# Altium integrated library Analog Devices Switches and Multiplexers Multiplexers (Muxes).IntLib: 481 symbols (part 17 of 23)
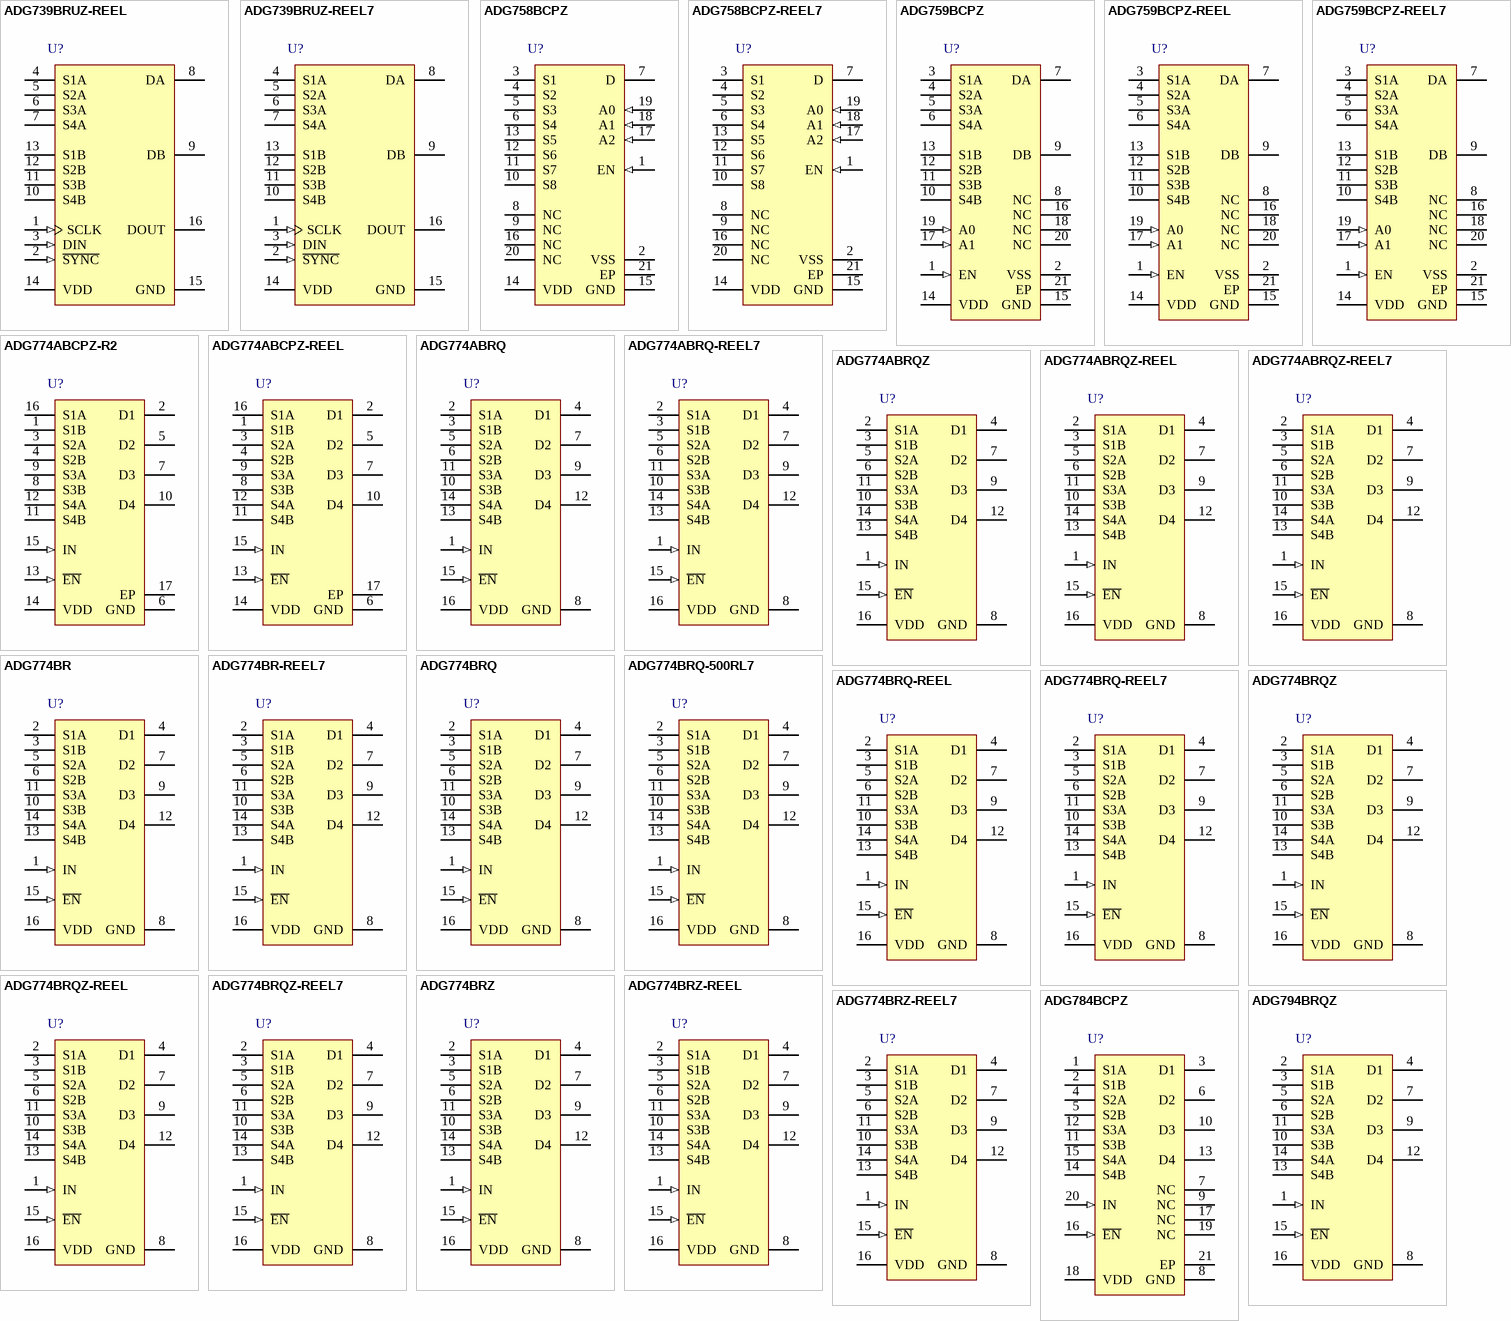
[diagram p33: symbols ADG739BRUZ-REEL to ADG794BRQZ]

## ADG774BR
designator U?
3 V / 5 V, CMOS, Wide Bandwidth Quad 2:1 Mux, -40 to 125 degC, 16-pin SOIC (R-16), Tube; Manufacturer: Analog Devices; PartNumber: ADG774BR; Bandwidth (Hz): 240M; Max Analog Signal Range: 0 to Vdd; Ron (ohms): 2.2; Supply V Guar Performance: Single_(+3V), Single_(+5V); DatasheetVersion: Rev. C; PackageVersion: 060606-A, 06/2006; PackageReference: R-16; PackageDescription: 16-Pin Standard Small Outline Package, Body 9.9 x 3.9 mm, Pitch 1.27 mm; Supplier 1: Digi-Key; Supplier Part Number 1: ADG774BR-ND; Packing: Tube; Mounting Technology: Surface Mount; Code_JEDEC: MS-012-AC; ComponentLink1Description: Manufacturer URL; ComponentLink1URL: http://www.analog.com/en/index.html; ComponentLink2Description: Datasheet; ComponentLink2URL: http://www.analog.com/static/imported-files/data_sheets/ADG774.pdf; ComponentLink3Description: Package Specification; ComponentLink3URL: http://www.analog.com/static/imported-files/packages/PKG_PDF/SOIC_Narrow%20(R)/R_16.pdf
footprint ADI-R-16_N (SOIC, 16-Leads, Body 9.9x3.9mm, Pitch 1.27mm, IPC Medium Density)
footprint ADI-R-16_L (SOIC, 16-Leads, Body 9.9x3.9mm, Pitch 1.27mm, IPC High Density)
footprint ADI-R-16_M (SOIC, 16-Leads, Body 9.9x3.9mm, Pitch 1.27mm, IPC Low Density)
pins: 1 IN (in) "Logic Control Input.", 2 S1A "Source Terminal. May be an input or output.", 3 S1B "Source Terminal. May be an input or output.", 4 D1 "Drain Terminal. May be an input or output.", 5 S2A "Source Terminal. May be an input or output.", 6 S2B "Source Terminal. May be an input or output.", 7 D2 "Drain Terminal. May be an input or output.", 8 GND (power) "Ground (0 V) Reference.", 9 D3 "Drain Terminal. May be an input or output.", 10 S3B "Source Terminal. May be an input or output.", 11 S3A "Source Terminal. May be an input or output.", 12 D4 "Drain Terminal. May be an input or output.", 13 S4B "Source Terminal. May be an input or output.", 14 S4A "Source Terminal. May be an input or output.", 15 ~{EN} (in) "Logic Control Input.", 16 VDD (power) "Most Positive Power Supply Potential."

## ADG774BR-REEL7
designator U?
3 V / 5 V, CMOS, Wide Bandwidth Quad 2:1 Mux, -40 to 125 degC, 16-pin SOIC (R-16), Reel; Manufacturer: Analog Devices; PartNumber: ADG774BR-REEL7; Bandwidth (Hz): 240M; Max Analog Signal Range: 0 to Vdd; Ron (ohms): 2.2; Supply V Guar Performance: Single_(+3V), Single_(+5V); DatasheetVersion: Rev. C; PackageVersion: 060606-A, 06/2006; PackageReference: R-16; PackageDescription: 16-Pin Standard Small Outline Package, Body 9.9 x 3.9 mm, Pitch 1.27 mm; Supplier 1: Digi-Key; Supplier Part Number 1: ADG774BR-REEL7TR-ND; Supplier 2: Digi-Key; Supplier Part Number 2: ADG774BR-REEL7CT-ND; Supplier 3: Digi-Key; Supplier Part Number 3: ADG774BR-REEL7DKR-ND; Supplier 4: Newark; Supplier Part Number 4: 09B7178; Supplier 5: Mouser; Supplier Part Number 5: 584-ADG774BR-R7; Packing: Reel; Mounting Technology: Surface Mount; Code_JEDEC: MS-012-AC; ComponentLink1Description: Manufacturer URL; ComponentLink1URL: http://www.analog.com/en/index.html; ComponentLink2Description: Datasheet; ComponentLink2URL: http://www.analog.com/static/imported-files/data_sheets/ADG774.pdf; ComponentLink3Description: Package Specification; ComponentLink3URL: http://www.analog.com/static/imported-files/packages/PKG_PDF/SOIC_Narrow%20(R)/R_16.pdf
footprint ADI-R-16_N (SOIC, 16-Leads, Body 9.9x3.9mm, Pitch 1.27mm, IPC Medium Density)
footprint ADI-R-16_L (SOIC, 16-Leads, Body 9.9x3.9mm, Pitch 1.27mm, IPC High Density)
footprint ADI-R-16_M (SOIC, 16-Leads, Body 9.9x3.9mm, Pitch 1.27mm, IPC Low Density)
pins: 1 IN (in) "Logic Control Input.", 2 S1A "Source Terminal. May be an input or output.", 3 S1B "Source Terminal. May be an input or output.", 4 D1 "Drain Terminal. May be an input or output.", 5 S2A "Source Terminal. May be an input or output.", 6 S2B "Source Terminal. May be an input or output.", 7 D2 "Drain Terminal. May be an input or output.", 8 GND (power) "Ground (0 V) Reference.", 9 D3 "Drain Terminal. May be an input or output.", 10 S3B "Source Terminal. May be an input or output.", 11 S3A "Source Terminal. May be an input or output.", 12 D4 "Drain Terminal. May be an input or output.", 13 S4B "Source Terminal. May be an input or output.", 14 S4A "Source Terminal. May be an input or output.", 15 ~{EN} (in) "Logic Control Input.", 16 VDD (power) "Most Positive Power Supply Potential."

## ADG774BRQ
designator U?
3 V / 5 V, CMOS, Wide Bandwidth Quad 2:1 Mux, -40 to 125 degC, 16-pin SOP (RQ-16), Tube; Manufacturer: Analog Devices; PartNumber: ADG774BRQ; Bandwidth (Hz): 240M; Max Analog Signal Range: 0 to Vdd; Ron (ohms): 2.2; Supply V Guar Performance: Single_(+3V), Single_(+5V); DatasheetVersion: Rev. C; PackageVersion: Aug-05; PackageReference: RQ-16; PackageDescription: 16-Pin Shrink Small Outline Package, Body 4.9 x 3.9 mm, Pitch 0.64 mm; Supplier 1: Digi-Key; Supplier Part Number 1: ADG774BRQ-ND; Packing: Tube; Mounting Technology: Surface Mount; Code_JEDEC: MO-137-AB; ComponentLink1Description: Manufacturer URL; ComponentLink1URL: http://www.analog.com/en/index.html; ComponentLink2Description: Datasheet; ComponentLink2URL: http://www.analog.com/static/imported-files/data_sheets/ADG774.pdf; ComponentLink3Description: Package Specification; ComponentLink3URL: http://www.analog.com/static/imported-files/packages/5595549651201762937RQ_16.pdf
footprint ADI-RQ-16_N (SOP, 16-Leads, Body 4.9x3.9mm, Pitch 0.64mm, IPC Medium Density)
footprint ADI-RQ-16_L (SOP, 16-Leads, Body 4.9x3.9mm, Pitch 0.64mm, IPC High Density)
footprint ADI-RQ-16_M (SOP, 16-Leads, Body 4.9x3.9mm, Pitch 0.64mm, IPC Low Density)
pins: 1 IN (in) "Logic Control Input.", 2 S1A "Source Terminal. May be an input or output.", 3 S1B "Source Terminal. May be an input or output.", 4 D1 "Drain Terminal. May be an input or output.", 5 S2A "Source Terminal. May be an input or output.", 6 S2B "Source Terminal. May be an input or output.", 7 D2 "Drain Terminal. May be an input or output.", 8 GND (power) "Ground (0 V) Reference.", 9 D3 "Drain Terminal. May be an input or output.", 10 S3B "Source Terminal. May be an input or output.", 11 S3A "Source Terminal. May be an input or output.", 12 D4 "Drain Terminal. May be an input or output.", 13 S4B "Source Terminal. May be an input or output.", 14 S4A "Source Terminal. May be an input or output.", 15 ~{EN} (in) "Logic Control Input.", 16 VDD (power) "Most Positive Power Supply Potential."

## ADG774BRQ-500RL7
designator U?
3 V / 5 V, CMOS, Wide Bandwidth Quad 2:1 Mux, -40 to 125 degC, 16-pin SOP (RQ-16), Reel; Manufacturer: Analog Devices; PartNumber: ADG774BRQ-500RL7; Bandwidth (Hz): 240M; Max Analog Signal Range: 0 to Vdd; Ron (ohms): 2.2; Supply V Guar Performance: Single_(+3V), Single_(+5V); DatasheetVersion: Rev. C; PackageVersion: Aug-05; PackageReference: RQ-16; PackageDescription: 16-Pin Shrink Small Outline Package, Body 4.9 x 3.9 mm, Pitch 0.64 mm; Supplier 1: Mouser; Supplier Part Number 1: N/A; Packing: Reel; Mounting Technology: Surface Mount; Code_JEDEC: MO-137-AB; ComponentLink1Description: Manufacturer URL; ComponentLink1URL: http://www.analog.com/en/index.html; ComponentLink2Description: Datasheet; ComponentLink2URL: http://www.analog.com/static/imported-files/data_sheets/ADG774.pdf; ComponentLink3Description: Package Specification; ComponentLink3URL: http://www.analog.com/static/imported-files/packages/5595549651201762937RQ_16.pdf
footprint ADI-RQ-16_N (SOP, 16-Leads, Body 4.9x3.9mm, Pitch 0.64mm, IPC Medium Density)
footprint ADI-RQ-16_L (SOP, 16-Leads, Body 4.9x3.9mm, Pitch 0.64mm, IPC High Density)
footprint ADI-RQ-16_M (SOP, 16-Leads, Body 4.9x3.9mm, Pitch 0.64mm, IPC Low Density)
pins: 1 IN (in) "Logic Control Input.", 2 S1A "Source Terminal. May be an input or output.", 3 S1B "Source Terminal. May be an input or output.", 4 D1 "Drain Terminal. May be an input or output.", 5 S2A "Source Terminal. May be an input or output.", 6 S2B "Source Terminal. May be an input or output.", 7 D2 "Drain Terminal. May be an input or output.", 8 GND (power) "Ground (0 V) Reference.", 9 D3 "Drain Terminal. May be an input or output.", 10 S3B "Source Terminal. May be an input or output.", 11 S3A "Source Terminal. May be an input or output.", 12 D4 "Drain Terminal. May be an input or output.", 13 S4B "Source Terminal. May be an input or output.", 14 S4A "Source Terminal. May be an input or output.", 15 ~{EN} (in) "Logic Control Input.", 16 VDD (power) "Most Positive Power Supply Potential."

## ADG774BRQ-REEL
designator U?
3 V / 5 V, CMOS, Wide Bandwidth Quad 2:1 Mux, -40 to 125 degC, 16-pin SOP (RQ-16), Reel; Manufacturer: Analog Devices; PartNumber: ADG774BRQ-REEL; Bandwidth (Hz): 240M; Max Analog Signal Range: 0 to Vdd; Ron (ohms): 2.2; Supply V Guar Performance: Single_(+3V), Single_(+5V); DatasheetVersion: Rev. C; PackageVersion: Aug-05; PackageReference: RQ-16; PackageDescription: 16-Pin Shrink Small Outline Package, Body 4.9 x 3.9 mm, Pitch 0.64 mm; Supplier 1: Digi-Key; Supplier Part Number 1: ADG774BRQ-REEL-ND; Supplier 2: Newark; Supplier Part Number 2: 09B7175; Packing: Reel; Mounting Technology: Surface Mount; Code_JEDEC: MO-137-AB; ComponentLink1Description: Manufacturer URL; ComponentLink1URL: http://www.analog.com/en/index.html; ComponentLink2Description: Datasheet; ComponentLink2URL: http://www.analog.com/static/imported-files/data_sheets/ADG774.pdf; ComponentLink3Description: Package Specification; ComponentLink3URL: http://www.analog.com/static/imported-files/packages/5595549651201762937RQ_16.pdf
footprint ADI-RQ-16_N (SOP, 16-Leads, Body 4.9x3.9mm, Pitch 0.64mm, IPC Medium Density)
footprint ADI-RQ-16_L (SOP, 16-Leads, Body 4.9x3.9mm, Pitch 0.64mm, IPC High Density)
footprint ADI-RQ-16_M (SOP, 16-Leads, Body 4.9x3.9mm, Pitch 0.64mm, IPC Low Density)
pins: 1 IN (in) "Logic Control Input.", 2 S1A "Source Terminal. May be an input or output.", 3 S1B "Source Terminal. May be an input or output.", 4 D1 "Drain Terminal. May be an input or output.", 5 S2A "Source Terminal. May be an input or output.", 6 S2B "Source Terminal. May be an input or output.", 7 D2 "Drain Terminal. May be an input or output.", 8 GND (power) "Ground (0 V) Reference.", 9 D3 "Drain Terminal. May be an input or output.", 10 S3B "Source Terminal. May be an input or output.", 11 S3A "Source Terminal. May be an input or output.", 12 D4 "Drain Terminal. May be an input or output.", 13 S4B "Source Terminal. May be an input or output.", 14 S4A "Source Terminal. May be an input or output.", 15 ~{EN} (in) "Logic Control Input.", 16 VDD (power) "Most Positive Power Supply Potential."

## ADG774BRQ-REEL7
designator U?
3 V / 5 V, CMOS, Wide Bandwidth Quad 2:1 Mux, -40 to 125 degC, 16-pin SOP (RQ-16), Reel; Manufacturer: Analog Devices; PartNumber: ADG774BRQ-REEL7; Bandwidth (Hz): 240M; Max Analog Signal Range: 0 to Vdd; Ron (ohms): 2.2; Supply V Guar Performance: Single_(+3V), Single_(+5V); DatasheetVersion: Rev. C; PackageVersion: Aug-05; PackageReference: RQ-16; PackageDescription: 16-Pin Shrink Small Outline Package, Body 4.9 x 3.9 mm, Pitch 0.64 mm; Supplier 1: Digi-Key; Supplier Part Number 1: ADG774BRQ-REEL7TR-ND; Supplier 2: Digi-Key; Supplier Part Number 2: ADG774BRQ-REEL7CT-ND; Supplier 3: Digi-Key; Supplier Part Number 3: ADG774BRQ-REEL7DKR-ND; Supplier 4: Mouser; Supplier Part Number 4: 584-ADG774BRQ-R7; Packing: Reel; Mounting Technology: Surface Mount; Code_JEDEC: MO-137-AB; ComponentLink1Description: Manufacturer URL; ComponentLink1URL: http://www.analog.com/en/index.html; ComponentLink2Description: Datasheet; ComponentLink2URL: http://www.analog.com/static/imported-files/data_sheets/ADG774.pdf; ComponentLink3Description: Package Specification; ComponentLink3URL: http://www.analog.com/static/imported-files/packages/5595549651201762937RQ_16.pdf
footprint ADI-RQ-16_N (SOP, 16-Leads, Body 4.9x3.9mm, Pitch 0.64mm, IPC Medium Density)
footprint ADI-RQ-16_L (SOP, 16-Leads, Body 4.9x3.9mm, Pitch 0.64mm, IPC High Density)
footprint ADI-RQ-16_M (SOP, 16-Leads, Body 4.9x3.9mm, Pitch 0.64mm, IPC Low Density)
pins: 1 IN (in) "Logic Control Input.", 2 S1A "Source Terminal. May be an input or output.", 3 S1B "Source Terminal. May be an input or output.", 4 D1 "Drain Terminal. May be an input or output.", 5 S2A "Source Terminal. May be an input or output.", 6 S2B "Source Terminal. May be an input or output.", 7 D2 "Drain Terminal. May be an input or output.", 8 GND (power) "Ground (0 V) Reference.", 9 D3 "Drain Terminal. May be an input or output.", 10 S3B "Source Terminal. May be an input or output.", 11 S3A "Source Terminal. May be an input or output.", 12 D4 "Drain Terminal. May be an input or output.", 13 S4B "Source Terminal. May be an input or output.", 14 S4A "Source Terminal. May be an input or output.", 15 ~{EN} (in) "Logic Control Input.", 16 VDD (power) "Most Positive Power Supply Potential."

## ADG774BRQZ
designator U?
3 V / 5 V, CMOS, Wide Bandwidth Quad 2:1 Mux, -40 to 125 degC, 16-pin SOP (RQ-16), Tube; Manufacturer: Analog Devices; PartNumber: ADG774BRQZ; Bandwidth (Hz): 240M; Max Analog Signal Range: 0 to Vdd; Ron (ohms): 2.2; Supply V Guar Performance: Single_(+3V), Single_(+5V); DatasheetVersion: Rev. C; PackageVersion: Aug-05; PackageReference: RQ-16; PackageDescription: 16-Pin Shrink Small Outline Package, Body 4.9 x 3.9 mm, Pitch 0.64 mm; Supplier 1: Digi-Key; Supplier Part Number 1: ADG774BRQZ-ND; Supplier 2: Farnell; Supplier Part Number 2: 2377063; Supplier 3: Newark; Supplier Part Number 3: 59K1603; Supplier 4: Mouser; Supplier Part Number 4: 584-ADG774BRQZ; Packing: Tube; Mounting Technology: Surface Mount; Code_JEDEC: MO-137-AB; ComponentLink1Description: Manufacturer URL; ComponentLink1URL: http://www.analog.com/en/index.html; ComponentLink2Description: Datasheet; ComponentLink2URL: http://www.analog.com/static/imported-files/data_sheets/ADG774.pdf; ComponentLink3Description: Package Specification; ComponentLink3URL: http://www.analog.com/static/imported-files/packages/5595549651201762937RQ_16.pdf
footprint ADI-RQ-16_N (SOP, 16-Leads, Body 4.9x3.9mm, Pitch 0.64mm, IPC Medium Density)
footprint ADI-RQ-16_L (SOP, 16-Leads, Body 4.9x3.9mm, Pitch 0.64mm, IPC High Density)
footprint ADI-RQ-16_M (SOP, 16-Leads, Body 4.9x3.9mm, Pitch 0.64mm, IPC Low Density)
pins: 1 IN (in) "Logic Control Input.", 2 S1A "Source Terminal. May be an input or output.", 3 S1B "Source Terminal. May be an input or output.", 4 D1 "Drain Terminal. May be an input or output.", 5 S2A "Source Terminal. May be an input or output.", 6 S2B "Source Terminal. May be an input or output.", 7 D2 "Drain Terminal. May be an input or output.", 8 GND (power) "Ground (0 V) Reference.", 9 D3 "Drain Terminal. May be an input or output.", 10 S3B "Source Terminal. May be an input or output.", 11 S3A "Source Terminal. May be an input or output.", 12 D4 "Drain Terminal. May be an input or output.", 13 S4B "Source Terminal. May be an input or output.", 14 S4A "Source Terminal. May be an input or output.", 15 ~{EN} (in) "Logic Control Input.", 16 VDD (power) "Most Positive Power Supply Potential."

## ADG774BRQZ-REEL
designator U?
3 V / 5 V, CMOS, Wide Bandwidth Quad 2:1 Mux, -40 to 125 degC, 16-pin SOP (RQ-16), Reel; Manufacturer: Analog Devices; PartNumber: ADG774BRQZ-REEL; Bandwidth (Hz): 240M; Max Analog Signal Range: 0 to Vdd; Ron (ohms): 2.2; Supply V Guar Performance: Single_(+3V), Single_(+5V); DatasheetVersion: Rev. C; PackageVersion: Aug-05; PackageReference: RQ-16; PackageDescription: 16-Pin Shrink Small Outline Package, Body 4.9 x 3.9 mm, Pitch 0.64 mm; Supplier 1: Digi-Key; Supplier Part Number 1: ADG774BRQZ-REEL-ND; Supplier 2: Newark; Supplier Part Number 2: 59K1604; Supplier 3: Mouser; Supplier Part Number 3: 584-ADG774BRQZ-R; Packing: Reel; Mounting Technology: Surface Mount; Code_JEDEC: MO-137-AB; ComponentLink1Description: Manufacturer URL; ComponentLink1URL: http://www.analog.com/en/index.html; ComponentLink2Description: Datasheet; ComponentLink2URL: http://www.analog.com/static/imported-files/data_sheets/ADG774.pdf; ComponentLink3Description: Package Specification; ComponentLink3URL: http://www.analog.com/static/imported-files/packages/5595549651201762937RQ_16.pdf
footprint ADI-RQ-16_N (SOP, 16-Leads, Body 4.9x3.9mm, Pitch 0.64mm, IPC Medium Density)
footprint ADI-RQ-16_L (SOP, 16-Leads, Body 4.9x3.9mm, Pitch 0.64mm, IPC High Density)
footprint ADI-RQ-16_M (SOP, 16-Leads, Body 4.9x3.9mm, Pitch 0.64mm, IPC Low Density)
pins: 1 IN (in) "Logic Control Input.", 2 S1A "Source Terminal. May be an input or output.", 3 S1B "Source Terminal. May be an input or output.", 4 D1 "Drain Terminal. May be an input or output.", 5 S2A "Source Terminal. May be an input or output.", 6 S2B "Source Terminal. May be an input or output.", 7 D2 "Drain Terminal. May be an input or output.", 8 GND (power) "Ground (0 V) Reference.", 9 D3 "Drain Terminal. May be an input or output.", 10 S3B "Source Terminal. May be an input or output.", 11 S3A "Source Terminal. May be an input or output.", 12 D4 "Drain Terminal. May be an input or output.", 13 S4B "Source Terminal. May be an input or output.", 14 S4A "Source Terminal. May be an input or output.", 15 ~{EN} (in) "Logic Control Input.", 16 VDD (power) "Most Positive Power Supply Potential."

## ADG774BRQZ-REEL7
designator U?
3 V / 5 V, CMOS, Wide Bandwidth Quad 2:1 Mux, -40 to 125 degC, 16-pin SOP (RQ-16), Reel; Manufacturer: Analog Devices; PartNumber: ADG774BRQZ-REEL7; Bandwidth (Hz): 240M; Max Analog Signal Range: 0 to Vdd; Ron (ohms): 2.2; Supply V Guar Performance: Single_(+3V), Single_(+5V); DatasheetVersion: Rev. C; PackageVersion: Aug-05; PackageReference: RQ-16; PackageDescription: 16-Pin Shrink Small Outline Package, Body 4.9 x 3.9 mm, Pitch 0.64 mm; Supplier 1: Digi-Key; Supplier Part Number 1: ADG774BRQZ-REEL7-ND; Supplier 2: Newark; Supplier Part Number 2: 59K1605; Supplier 3: Mouser; Supplier Part Number 3: 584-ADG774BRQZ-R7; Packing: Reel; Mounting Technology: Surface Mount; Code_JEDEC: MO-137-AB; ComponentLink1Description: Manufacturer URL; ComponentLink1URL: http://www.analog.com/en/index.html; ComponentLink2Description: Datasheet; ComponentLink2URL: http://www.analog.com/static/imported-files/data_sheets/ADG774.pdf; ComponentLink3Description: Package Specification; ComponentLink3URL: http://www.analog.com/static/imported-files/packages/5595549651201762937RQ_16.pdf
footprint ADI-RQ-16_N (SOP, 16-Leads, Body 4.9x3.9mm, Pitch 0.64mm, IPC Medium Density)
footprint ADI-RQ-16_L (SOP, 16-Leads, Body 4.9x3.9mm, Pitch 0.64mm, IPC High Density)
footprint ADI-RQ-16_M (SOP, 16-Leads, Body 4.9x3.9mm, Pitch 0.64mm, IPC Low Density)
pins: 1 IN (in) "Logic Control Input.", 2 S1A "Source Terminal. May be an input or output.", 3 S1B "Source Terminal. May be an input or output.", 4 D1 "Drain Terminal. May be an input or output.", 5 S2A "Source Terminal. May be an input or output.", 6 S2B "Source Terminal. May be an input or output.", 7 D2 "Drain Terminal. May be an input or output.", 8 GND (power) "Ground (0 V) Reference.", 9 D3 "Drain Terminal. May be an input or output.", 10 S3B "Source Terminal. May be an input or output.", 11 S3A "Source Terminal. May be an input or output.", 12 D4 "Drain Terminal. May be an input or output.", 13 S4B "Source Terminal. May be an input or output.", 14 S4A "Source Terminal. May be an input or output.", 15 ~{EN} (in) "Logic Control Input.", 16 VDD (power) "Most Positive Power Supply Potential."

## ADG774BRZ
designator U?
3 V / 5 V, CMOS, Wide Bandwidth Quad 2:1 Mux, -40 to 125 degC, 16-pin SOIC (R-16), Tube; Manufacturer: Analog Devices; PartNumber: ADG774BRZ; Bandwidth (Hz): 240M; Max Analog Signal Range: 0 to Vdd; Ron (ohms): 2.2; Supply V Guar Performance: Single_(+3V), Single_(+5V); DatasheetVersion: Rev. C; PackageVersion: 060606-A, 06/2006; PackageReference: R-16; PackageDescription: 16-Pin Standard Small Outline Package, Body 9.9 x 3.9 mm, Pitch 1.27 mm; Supplier 1: Digi-Key; Supplier Part Number 1: ADG774BRZ-ND; Supplier 2: Farnell; Supplier Part Number 2: 9425799; Supplier 3: Newark; Supplier Part Number 3: 19M0694; Supplier 4: Mouser; Supplier Part Number 4: 584-ADG774BRZ; Packing: Tube; Mounting Technology: Surface Mount; Code_JEDEC: MS-012-AC; ComponentLink1Description: Manufacturer URL; ComponentLink1URL: http://www.analog.com/en/index.html; ComponentLink2Description: Datasheet; ComponentLink2URL: http://www.analog.com/static/imported-files/data_sheets/ADG774.pdf; ComponentLink3Description: Package Specification; ComponentLink3URL: http://www.analog.com/static/imported-files/packages/PKG_PDF/SOIC_Narrow%20(R)/R_16.pdf
footprint ADI-R-16_N (SOIC, 16-Leads, Body 9.9x3.9mm, Pitch 1.27mm, IPC Medium Density)
footprint ADI-R-16_L (SOIC, 16-Leads, Body 9.9x3.9mm, Pitch 1.27mm, IPC High Density)
footprint ADI-R-16_M (SOIC, 16-Leads, Body 9.9x3.9mm, Pitch 1.27mm, IPC Low Density)
pins: 1 IN (in) "Logic Control Input.", 2 S1A "Source Terminal. May be an input or output.", 3 S1B "Source Terminal. May be an input or output.", 4 D1 "Drain Terminal. May be an input or output.", 5 S2A "Source Terminal. May be an input or output.", 6 S2B "Source Terminal. May be an input or output.", 7 D2 "Drain Terminal. May be an input or output.", 8 GND (power) "Ground (0 V) Reference.", 9 D3 "Drain Terminal. May be an input or output.", 10 S3B "Source Terminal. May be an input or output.", 11 S3A "Source Terminal. May be an input or output.", 12 D4 "Drain Terminal. May be an input or output.", 13 S4B "Source Terminal. May be an input or output.", 14 S4A "Source Terminal. May be an input or output.", 15 ~{EN} (in) "Logic Control Input.", 16 VDD (power) "Most Positive Power Supply Potential."

## ADG774BRZ-REEL
designator U?
3 V / 5 V, CMOS, Wide Bandwidth Quad 2:1 Mux, -40 to 125 degC, 16-pin SOIC (R-16), Reel; Manufacturer: Analog Devices; PartNumber: ADG774BRZ-REEL; Bandwidth (Hz): 240M; Max Analog Signal Range: 0 to Vdd; Ron (ohms): 2.2; Supply V Guar Performance: Single_(+3V), Single_(+5V); DatasheetVersion: Rev. C; PackageVersion: 060606-A, 06/2006; PackageReference: R-16; PackageDescription: 16-Pin Standard Small Outline Package, Body 9.9 x 3.9 mm, Pitch 1.27 mm; Supplier 1: Digi-Key; Supplier Part Number 1: ADG774BRZ-REEL-ND; Supplier 2: Mouser; Supplier Part Number 2: 584-ADG774BRZ-R; Packing: Reel; Mounting Technology: Surface Mount; Code_JEDEC: MS-012-AC; ComponentLink1Description: Manufacturer URL; ComponentLink1URL: http://www.analog.com/en/index.html; ComponentLink2Description: Datasheet; ComponentLink2URL: http://www.analog.com/static/imported-files/data_sheets/ADG774.pdf; ComponentLink3Description: Package Specification; ComponentLink3URL: http://www.analog.com/static/imported-files/packages/PKG_PDF/SOIC_Narrow%20(R)/R_16.pdf
footprint ADI-R-16_N (SOIC, 16-Leads, Body 9.9x3.9mm, Pitch 1.27mm, IPC Medium Density)
footprint ADI-R-16_L (SOIC, 16-Leads, Body 9.9x3.9mm, Pitch 1.27mm, IPC High Density)
footprint ADI-R-16_M (SOIC, 16-Leads, Body 9.9x3.9mm, Pitch 1.27mm, IPC Low Density)
pins: 1 IN (in) "Logic Control Input.", 2 S1A "Source Terminal. May be an input or output.", 3 S1B "Source Terminal. May be an input or output.", 4 D1 "Drain Terminal. May be an input or output.", 5 S2A "Source Terminal. May be an input or output.", 6 S2B "Source Terminal. May be an input or output.", 7 D2 "Drain Terminal. May be an input or output.", 8 GND (power) "Ground (0 V) Reference.", 9 D3 "Drain Terminal. May be an input or output.", 10 S3B "Source Terminal. May be an input or output.", 11 S3A "Source Terminal. May be an input or output.", 12 D4 "Drain Terminal. May be an input or output.", 13 S4B "Source Terminal. May be an input or output.", 14 S4A "Source Terminal. May be an input or output.", 15 ~{EN} (in) "Logic Control Input.", 16 VDD (power) "Most Positive Power Supply Potential."

## ADG774BRZ-REEL7
designator U?
3 V / 5 V, CMOS, Wide Bandwidth Quad 2:1 Mux, -40 to 125 degC, 16-pin SOIC (R-16), Reel; Manufacturer: Analog Devices; PartNumber: ADG774BRZ-REEL7; Bandwidth (Hz): 240M; Max Analog Signal Range: 0 to Vdd; Ron (ohms): 2.2; Supply V Guar Performance: Single_(+3V), Single_(+5V); DatasheetVersion: Rev. C; PackageVersion: 060606-A, 06/2006; PackageReference: R-16; PackageDescription: 16-Pin Standard Small Outline Package, Body 9.9 x 3.9 mm, Pitch 1.27 mm; Supplier 1: Digi-Key; Supplier Part Number 1: ADG774BRZ-REEL7-ND; Supplier 2: Newark; Supplier Part Number 2: 59K1608; Supplier 3: Mouser; Supplier Part Number 3: 584-ADG774BRZ-R7; Packing: Reel; Mounting Technology: Surface Mount; Code_JEDEC: MS-012-AC; ComponentLink1Description: Manufacturer URL; ComponentLink1URL: http://www.analog.com/en/index.html; ComponentLink2Description: Datasheet; ComponentLink2URL: http://www.analog.com/static/imported-files/data_sheets/ADG774.pdf; ComponentLink3Description: Package Specification; ComponentLink3URL: http://www.analog.com/static/imported-files/packages/PKG_PDF/SOIC_Narrow%20(R)/R_16.pdf
footprint ADI-R-16_N (SOIC, 16-Leads, Body 9.9x3.9mm, Pitch 1.27mm, IPC Medium Density)
footprint ADI-R-16_L (SOIC, 16-Leads, Body 9.9x3.9mm, Pitch 1.27mm, IPC High Density)
footprint ADI-R-16_M (SOIC, 16-Leads, Body 9.9x3.9mm, Pitch 1.27mm, IPC Low Density)
pins: 1 IN (in) "Logic Control Input.", 2 S1A "Source Terminal. May be an input or output.", 3 S1B "Source Terminal. May be an input or output.", 4 D1 "Drain Terminal. May be an input or output.", 5 S2A "Source Terminal. May be an input or output.", 6 S2B "Source Terminal. May be an input or output.", 7 D2 "Drain Terminal. May be an input or output.", 8 GND (power) "Ground (0 V) Reference.", 9 D3 "Drain Terminal. May be an input or output.", 10 S3B "Source Terminal. May be an input or output.", 11 S3A "Source Terminal. May be an input or output.", 12 D4 "Drain Terminal. May be an input or output.", 13 S4B "Source Terminal. May be an input or output.", 14 S4A "Source Terminal. May be an input or output.", 15 ~{EN} (in) "Logic Control Input.", 16 VDD (power) "Most Positive Power Supply Potential."

## ADG784BCPZ
designator U?
3 V / 5 V, CMOS, Wide Bandwidth Quad 2:1 Mux in Chip Scale Package, -40 to 85 degC, 20-pin QFN (CP-20-6), Tube; Manufacturer: Analog Devices; PartNumber: ADG784BCPZ; Bandwidth (Hz): 240M; Max Analog Signal Range: 0 to Vdd; Packing: Tray; Ron (ohms): 2.2; Supply V Guar Performance: Single_(+3V), Single_(+5V); DatasheetVersion: Rev. 0; PackageVersion: 061708-A, 07/2011; PackageReference: CP-20-6; PackageDescription: 20-Pin Lead Frame Chip Scale Package, Body 4 x 4 mm, Pitch 0.5 mm; Supplier 1: Digi-Key; Supplier Part Number 1: ADG784BCPZ-ND; Supplier 2: Mouser; Supplier Part Number 2: 584-ADG784BCPZ; Mounting Technology: Surface Mount; Code_JEDEC: MO-220; ComponentLink1Description: Manufacturer URL; ComponentLink1URL: http://www.analog.com/en/index.html; ComponentLink2Description: Datasheet; ComponentLink2URL: http://www.analog.com/static/imported-files/data_sheets/ADG784.pdf; ComponentLink3Description: Package Specification; ComponentLink3URL: http://www.analog.com/static/imported-files/packages/PKG_PDF/LFCSP(CP)/CP_20_6.pdf
footprint ADI-CP-20-6_N (QFN, 20-Leads, Body 4x4mm, Pitch 0.5mm, Thermal Pad 2.15x2.15mm, IPC Medium Density)
footprint ADI-CP-20-6_L (QFN, 20-Leads, Body 4x4mm, Pitch 0.5mm, Thermal Pad 2.15x2.15mm, IPC High Density)
footprint ADI-CP-20-6_M (QFN, 20-Leads, Body 4x4mm, Pitch 0.5mm, Thermal Pad 2.15x2.15mm, IPC Low Density)
pins: 1 S1A "Source Terminal. May be an input or output", 2 S1B "Source Terminal. May be an input or output", 3 D1 "Drain Terminal. May be an input or output.", 4 S2A "Source Terminal. May be an input or output", 5 S2B "Source Terminal. May be an input or output", 6 D2 "Drain Terminal. May be an input or output.", 7 NC "No connect.", 8 GND (power) "Ground (0 V) Reference.", 9 NC "No connect.", 10 D3 "Drain Terminal. May be an input or output.", 11 S3B "Source Terminal. May be an input or output", 12 S3A "Source Terminal. May be an input or output", 13 D4 "Drain Terminal. May be an input or output.", 14 S4B "Source Terminal. May be an input or output", 15 S4A "Source Terminal. May be an input or output", 16 ~{EN} (in) "Logic Control Input.", 17 NC "No connect.", 18 VDD (power) "Most Positive Power Supply Potential", 19 NC "No connect.", 20 IN (in) "Logic Control Input.", 21 EP (power) "EXPOSED PAD TIED TO SUBSTRATE, GND"

## ADG794BRQZ
designator U?
Low Voltage, 300 MHz Quad 2:1 Mux Analog HDTV Audio / Video Switch, -40 to 85 degC, 16-pin SOP (RQ-16), Tube; Manufacturer: Analog Devices; PartNumber: ADG794BRQZ; Bandwidth (Hz): 300M; Max Analog Signal Range: 0 to Vdd/2; Ron (ohms): 7; Supply V Guar Performance: Single_(+3V), Single_(+5V); DatasheetVersion: Rev. B; PackageVersion: Aug-05; PackageReference: RQ-16; PackageDescription: 16-Pin Shrink Small Outline Package, Body 4.9 x 3.9 mm, Pitch 0.64 mm; Supplier 1: Digi-Key; Supplier Part Number 1: ADG794BRQZ-ND; Supplier 2: Farnell; Supplier Part Number 2: 1078226; Supplier 3: Newark; Supplier Part Number 3: 19M0696; Supplier 4: Mouser; Supplier Part Number 4: 584-ADG794BRQZ; Packing: Tube; Mounting Technology: Surface Mount; Code_JEDEC: MO-137-AB; ComponentLink1Description: Manufacturer URL; ComponentLink1URL: http://www.analog.com/en/index.html; ComponentLink2Description: Datasheet; ComponentLink2URL: http://www.analog.com/static/imported-files/data_sheets/ADG794.pdf; ComponentLink3Description: Package Specification; ComponentLink3URL: http://www.analog.com/static/imported-files/packages/5595549651201762937RQ_16.pdf
footprint ADI-RQ-16_N (SOP, 16-Leads, Body 4.9x3.9mm, Pitch 0.64mm, IPC Medium Density)
footprint ADI-RQ-16_L (SOP, 16-Leads, Body 4.9x3.9mm, Pitch 0.64mm, IPC High Density)
footprint ADI-RQ-16_M (SOP, 16-Leads, Body 4.9x3.9mm, Pitch 0.64mm, IPC Low Density)
pins: 1 IN (in) "Logic Control Input. The logic level at this input controls the operation of the multiplexers (see Table 4).", 2 S1A "A-Side Source Terminal of Mux1. Can be an input or an output.", 3 S1B "B-Side Source Terminal of Mux1. Can be an input or an output.", 4 D1 "Drain Terminal of Mux1. Can be an input or an output.", 5 S2A "A-Side Source Terminal of Mux2. Can be an input or an output.", 6 S2B "B-Side Source Terminal of Mux2. Can be an input or an output.", 7 D2 "Drain Terminal of Mux2. Can be an input or an output.", 8 GND (power) "Ground Reference.", 9 D3 "Drain Terminal of Mux3. Can be an input or an output.", 10 S3B "B-Side Source Terminal of Mux3. Can be an input or an output.", 11 S3A "A-Side Source Terminal of Mux3. Can be an input or an output.", 12 D4 "Drain Terminal of Mux4. Can be an input or an output.", 13 S4B "B-Side Source Terminal of Mux4. Can be an input or an output.", 14 S4A "A-Side Source Terminal of Mux4. Can be an input or an output.", 15 ~{EN} (in) "Mux Enable Logic Input. Enables or disables the multiplexers (see Table 4).", 16 VDD (power) "Positive Power Supply Voltage."

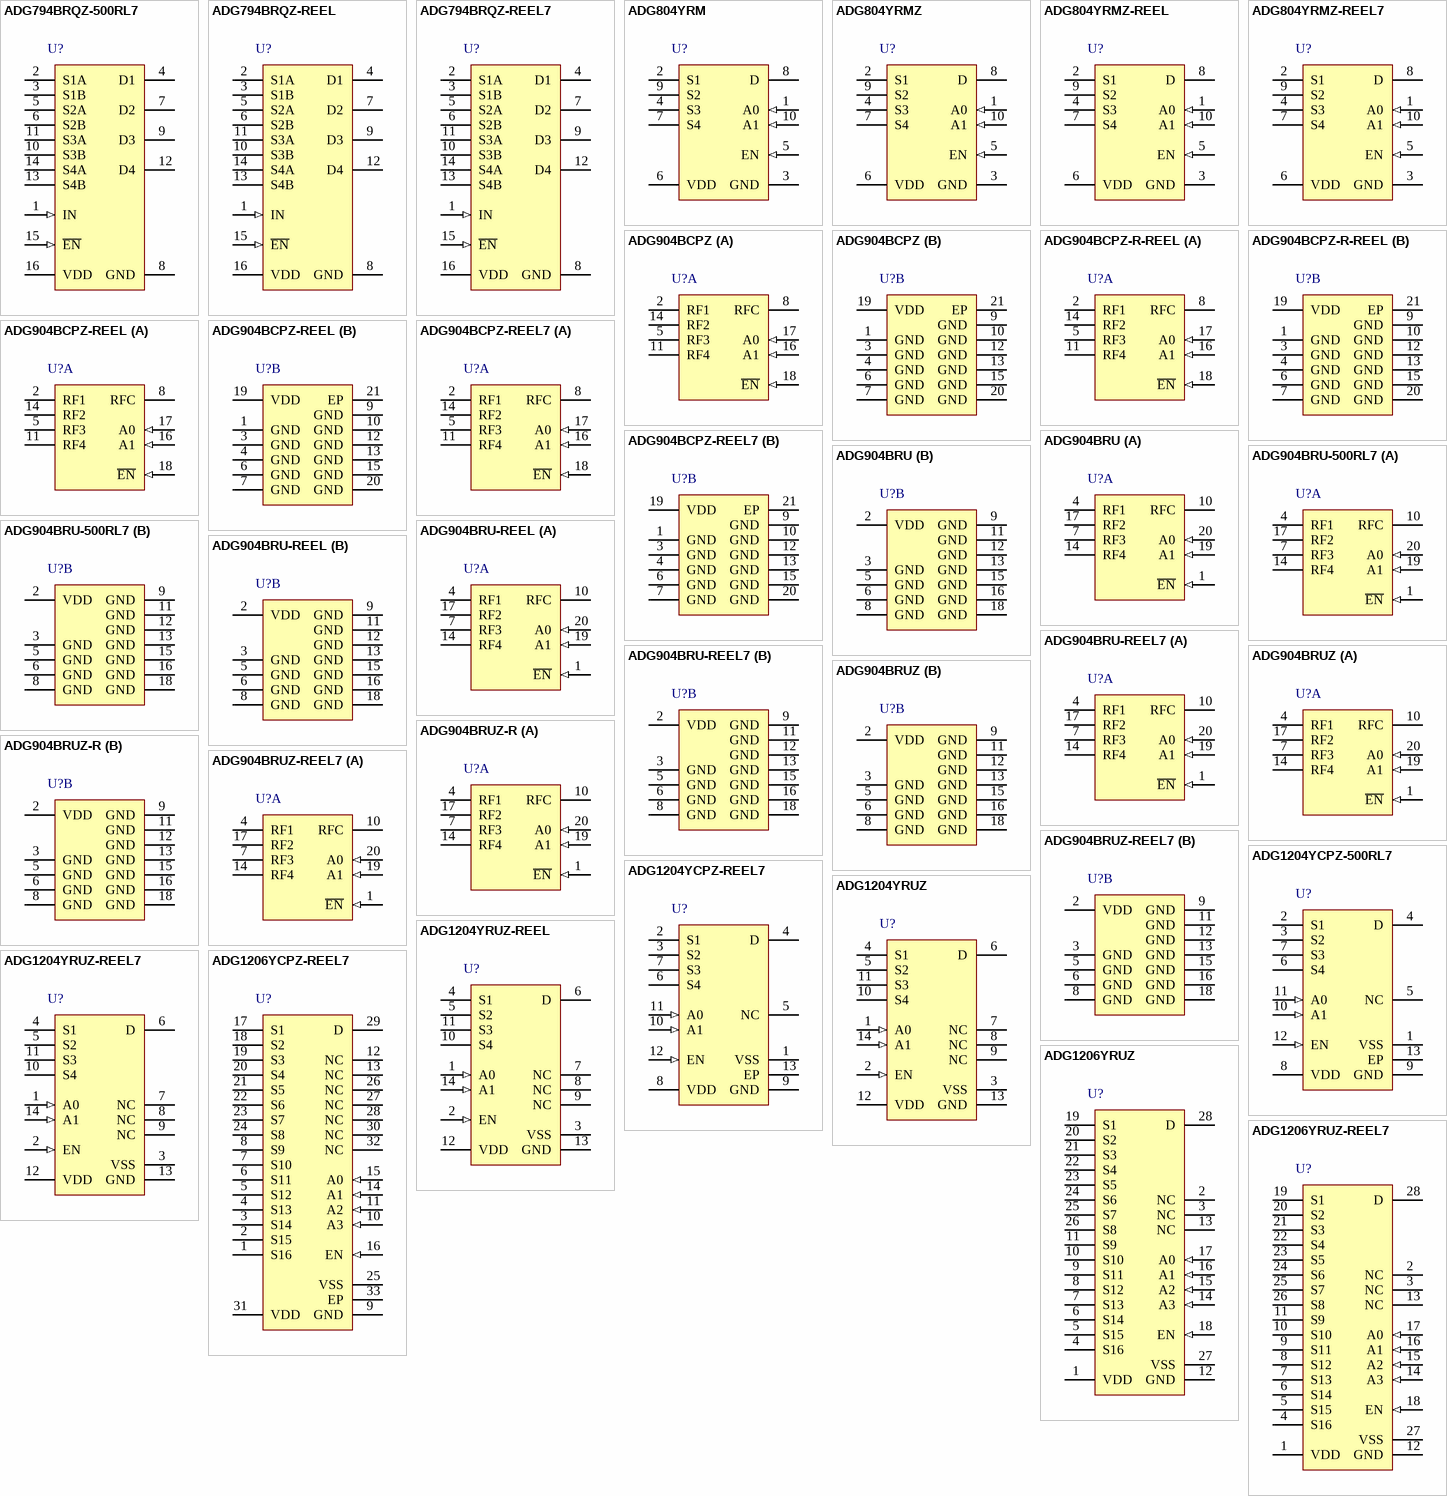
[diagram p13: symbols ADG794BRQZ-500RL7 to ADG1206YRUZ-REEL7]

## ADG794BRQZ-500RL7
designator U?
Low Voltage, 300 MHz Quad 2:1 Mux Analog HDTV Audio / Video Switch, -40 to 85 degC, 16-pin SOP (RQ-16), Reel; Manufacturer: Analog Devices; PartNumber: ADG794BRQZ-500RL7; Bandwidth (Hz): 300M; Max Analog Signal Range: 0 to Vdd/2; Ron (ohms): 7; Supply V Guar Performance: Single_(+3V), Single_(+5V); DatasheetVersion: Rev. B; PackageVersion: Aug-05; PackageReference: RQ-16; PackageDescription: 16-Pin Shrink Small Outline Package, Body 4.9 x 3.9 mm, Pitch 0.64 mm; Supplier 1: Digi-Key; Supplier Part Number 1: ADG794BRQZ-500RL7-ND; Supplier 2: Mouser; Supplier Part Number 2: 584-ADG794BRQZ-500R7; Packing: Reel; Mounting Technology: Surface Mount; Code_JEDEC: MO-137-AB; ComponentLink1Description: Manufacturer URL; ComponentLink1URL: http://www.analog.com/en/index.html; ComponentLink2Description: Datasheet; ComponentLink2URL: http://www.analog.com/static/imported-files/data_sheets/ADG794.pdf; ComponentLink3Description: Package Specification; ComponentLink3URL: http://www.analog.com/static/imported-files/packages/5595549651201762937RQ_16.pdf
footprint ADI-RQ-16_N (SOP, 16-Leads, Body 4.9x3.9mm, Pitch 0.64mm, IPC Medium Density)
footprint ADI-RQ-16_L (SOP, 16-Leads, Body 4.9x3.9mm, Pitch 0.64mm, IPC High Density)
footprint ADI-RQ-16_M (SOP, 16-Leads, Body 4.9x3.9mm, Pitch 0.64mm, IPC Low Density)
pins: 1 IN (in) "Logic Control Input. The logic level at this input controls the operation of the multiplexers (see Table 4).", 2 S1A "A-Side Source Terminal of Mux1. Can be an input or an output.", 3 S1B "B-Side Source Terminal of Mux1. Can be an input or an output.", 4 D1 "Drain Terminal of Mux1. Can be an input or an output.", 5 S2A "A-Side Source Terminal of Mux2. Can be an input or an output.", 6 S2B "B-Side Source Terminal of Mux2. Can be an input or an output.", 7 D2 "Drain Terminal of Mux2. Can be an input or an output.", 8 GND (power) "Ground Reference.", 9 D3 "Drain Terminal of Mux3. Can be an input or an output.", 10 S3B "B-Side Source Terminal of Mux3. Can be an input or an output.", 11 S3A "A-Side Source Terminal of Mux3. Can be an input or an output.", 12 D4 "Drain Terminal of Mux4. Can be an input or an output.", 13 S4B "B-Side Source Terminal of Mux4. Can be an input or an output.", 14 S4A "A-Side Source Terminal of Mux4. Can be an input or an output.", 15 ~{EN} (in) "Mux Enable Logic Input. Enables or disables the multiplexers (see Table 4).", 16 VDD (power) "Positive Power Supply Voltage."

## ADG794BRQZ-REEL
designator U?
Low Voltage, 300 MHz Quad 2:1 Mux Analog HDTV Audio / Video Switch, -40 to 85 degC, 16-pin SOP (RQ-16), Reel; Manufacturer: Analog Devices; PartNumber: ADG794BRQZ-REEL; Bandwidth (Hz): 300M; Max Analog Signal Range: 0 to Vdd/2; Ron (ohms): 7; Supply V Guar Performance: Single_(+3V), Single_(+5V); DatasheetVersion: Rev. B; PackageVersion: Aug-05; PackageReference: RQ-16; PackageDescription: 16-Pin Shrink Small Outline Package, Body 4.9 x 3.9 mm, Pitch 0.64 mm; Supplier 1: Digi-Key; Supplier Part Number 1: ADG794BRQZ-REEL-ND; Supplier 2: Newark; Supplier Part Number 2: 59K1620; Supplier 3: Mouser; Supplier Part Number 3: 584-ADG794BRQZ-R; Packing: Reel; Mounting Technology: Surface Mount; Code_JEDEC: MO-137-AB; ComponentLink1Description: Manufacturer URL; ComponentLink1URL: http://www.analog.com/en/index.html; ComponentLink2Description: Datasheet; ComponentLink2URL: http://www.analog.com/static/imported-files/data_sheets/ADG794.pdf; ComponentLink3Description: Package Specification; ComponentLink3URL: http://www.analog.com/static/imported-files/packages/5595549651201762937RQ_16.pdf
footprint ADI-RQ-16_N (SOP, 16-Leads, Body 4.9x3.9mm, Pitch 0.64mm, IPC Medium Density)
footprint ADI-RQ-16_L (SOP, 16-Leads, Body 4.9x3.9mm, Pitch 0.64mm, IPC High Density)
footprint ADI-RQ-16_M (SOP, 16-Leads, Body 4.9x3.9mm, Pitch 0.64mm, IPC Low Density)
pins: 1 IN (in) "Logic Control Input. The logic level at this input controls the operation of the multiplexers (see Table 4).", 2 S1A "A-Side Source Terminal of Mux1. Can be an input or an output.", 3 S1B "B-Side Source Terminal of Mux1. Can be an input or an output.", 4 D1 "Drain Terminal of Mux1. Can be an input or an output.", 5 S2A "A-Side Source Terminal of Mux2. Can be an input or an output.", 6 S2B "B-Side Source Terminal of Mux2. Can be an input or an output.", 7 D2 "Drain Terminal of Mux2. Can be an input or an output.", 8 GND (power) "Ground Reference.", 9 D3 "Drain Terminal of Mux3. Can be an input or an output.", 10 S3B "B-Side Source Terminal of Mux3. Can be an input or an output.", 11 S3A "A-Side Source Terminal of Mux3. Can be an input or an output.", 12 D4 "Drain Terminal of Mux4. Can be an input or an output.", 13 S4B "B-Side Source Terminal of Mux4. Can be an input or an output.", 14 S4A "A-Side Source Terminal of Mux4. Can be an input or an output.", 15 ~{EN} (in) "Mux Enable Logic Input. Enables or disables the multiplexers (see Table 4).", 16 VDD (power) "Positive Power Supply Voltage."

## ADG794BRQZ-REEL7
designator U?
Low Voltage, 300 MHz Quad 2:1 Mux Analog HDTV Audio / Video Switch, -40 to 85 degC, 16-pin SOP (RQ-16), Reel; Manufacturer: Analog Devices; PartNumber: ADG794BRQZ-REEL7; Bandwidth (Hz): 300M; Max Analog Signal Range: 0 to Vdd/2; Ron (ohms): 7; Supply V Guar Performance: Single_(+3V), Single_(+5V); DatasheetVersion: Rev. B; PackageVersion: Aug-05; PackageReference: RQ-16; PackageDescription: 16-Pin Shrink Small Outline Package, Body 4.9 x 3.9 mm, Pitch 0.64 mm; Supplier 1: Digi-Key; Supplier Part Number 1: ADG794BRQZ-REEL7TR-ND; Supplier 2: Digi-Key; Supplier Part Number 2: ADG794BRQZ-REEL7CT-ND; Supplier 3: Digi-Key; Supplier Part Number 3: ADG794BRQZ-REEL7DKR-ND; Supplier 4: Newark; Supplier Part Number 4: 59K1621; Supplier 5: Mouser; Supplier Part Number 5: 584-ADG794BRQZ-R7; Packing: Reel; Mounting Technology: Surface Mount; Code_JEDEC: MO-137-AB; ComponentLink1Description: Manufacturer URL; ComponentLink1URL: http://www.analog.com/en/index.html; ComponentLink2Description: Datasheet; ComponentLink2URL: http://www.analog.com/static/imported-files/data_sheets/ADG794.pdf; ComponentLink3Description: Package Specification; ComponentLink3URL: http://www.analog.com/static/imported-files/packages/5595549651201762937RQ_16.pdf
footprint ADI-RQ-16_N (SOP, 16-Leads, Body 4.9x3.9mm, Pitch 0.64mm, IPC Medium Density)
footprint ADI-RQ-16_L (SOP, 16-Leads, Body 4.9x3.9mm, Pitch 0.64mm, IPC High Density)
footprint ADI-RQ-16_M (SOP, 16-Leads, Body 4.9x3.9mm, Pitch 0.64mm, IPC Low Density)
pins: 1 IN (in) "Logic Control Input. The logic level at this input controls the operation of the multiplexers (see Table 4).", 2 S1A "A-Side Source Terminal of Mux1. Can be an input or an output.", 3 S1B "B-Side Source Terminal of Mux1. Can be an input or an output.", 4 D1 "Drain Terminal of Mux1. Can be an input or an output.", 5 S2A "A-Side Source Terminal of Mux2. Can be an input or an output.", 6 S2B "B-Side Source Terminal of Mux2. Can be an input or an output.", 7 D2 "Drain Terminal of Mux2. Can be an input or an output.", 8 GND (power) "Ground Reference.", 9 D3 "Drain Terminal of Mux3. Can be an input or an output.", 10 S3B "B-Side Source Terminal of Mux3. Can be an input or an output.", 11 S3A "A-Side Source Terminal of Mux3. Can be an input or an output.", 12 D4 "Drain Terminal of Mux4. Can be an input or an output.", 13 S4B "B-Side Source Terminal of Mux4. Can be an input or an output.", 14 S4A "A-Side Source Terminal of Mux4. Can be an input or an output.", 15 ~{EN} (in) "Mux Enable Logic Input. Enables or disables the multiplexers (see Table 4).", 16 VDD (power) "Positive Power Supply Voltage."

## ADG804YRM
designator U?
1.65 to 3.6 V, CMOS, 0.5 Ohm, 4-Channel Multiplexer, -40 to 125 degC, 10-pin SOP (RM-10), Tube; Manufacturer: Analog Devices; PartNumber: ADG804YRM; Bandwidth (Hz): 33M; Max Analog Signal Range: 0 to Vdd; Ron (ohms): 0.5; Supply V Guar Performance: Single_(+2.5V), Single_(+3.3V), Single_(+3V); t transition (s): 24n; DatasheetVersion: Rev. A; PackageVersion: Aug-05; PackageReference: RM-10; PackageDescription: 10-Pin Mini Small Outline Package, Body 3 x 3 mm, Pitch 0.5 mm; Supplier 1: Digi-Key; Supplier Part Number 1: ADG804YRM-ND; Supplier 2: Mouser; Supplier Part Number 2: 584-ADG804YRM; Packing: Tube; Mounting Technology: Surface Mount; Code_JEDEC: MO-187-BA; ComponentLink1Description: Manufacturer URL; ComponentLink1URL: http://www.analog.com/en/index.html; ComponentLink2Description: Datasheet; ComponentLink2URL: http://www.analog.com/static/imported-files/data_sheets/ADG804.pdf; ComponentLink3Description: Package Specification; ComponentLink3URL: http://www.analog.com/static/imported-files/packages/PKG_PDF/MSOP%28RM%29/RM_10.pdf
footprint ADI-RM-10_N (SOP, 10-Leads, Body 3x3mm, Pitch 0.5mm, IPC Medium Density)
footprint ADI-RM-10_L (SOP, 10-Leads, Body 3x3mm, Pitch 0.5mm, IPC High Density)
footprint ADI-RM-10_M (SOP, 10-Leads, Body 3x3mm, Pitch 0.5mm, IPC Low Density)
pins: 1 A0 (in) "Logic control inputs. Used to select which source terminal, S1 to S4, is connected to the drain, D.", 2 S1 "Source terminal. May be an input or an output.", 3 GND (power) "Ground (0 V) reference.", 4 S3 "Source terminal. May be an input or an output.", 5 EN (in) "Active high logic control input.", 6 VDD (power) "Most positive power supply potential.", 7 S4 "Source terminal. May be an input or an output.", 8 D "Drain terminal. May be an input or an output.", 9 S2 "Source terminal. May be an input or an output.", 10 A1 (in) "Logic control inputs. Used to select which source terminal, S1 to S4, is connected to the drain, D."

## ADG804YRMZ
designator U?
1.65 to 3.6 V, CMOS, 0.5 Ohm, 4-Channel Multiplexer, -40 to 125 degC, 10-pin SOP (RM-10), Tube; Manufacturer: Analog Devices; PartNumber: ADG804YRMZ; Bandwidth (Hz): 33M; Max Analog Signal Range: 0 to Vdd; Ron (ohms): 500; Supply V Guar Performance: Single_(+2.5V), Single_(+3.3V), Single_(+3V); t transition (s): 24n; DatasheetVersion: Rev. A; PackageVersion: Aug-05; PackageReference: RM-10; PackageDescription: 10-Pin Mini Small Outline Package, Body 3 x 3 mm, Pitch 0.5 mm; Supplier 1: Digi-Key; Supplier Part Number 1: ADG804YRMZ-ND; Supplier 2: Farnell; Supplier Part Number 2: 1078225; Supplier 3: Newark; Supplier Part Number 3: 59K1638; Supplier 4: Mouser; Supplier Part Number 4: 584-ADG804YRMZ; Packing: Tube; Mounting Technology: Surface Mount; Code_JEDEC: MO-187-BA; ComponentLink1Description: Manufacturer URL; ComponentLink1URL: http://www.analog.com/en/index.html; ComponentLink2Description: Datasheet; ComponentLink2URL: http://www.analog.com/static/imported-files/data_sheets/ADG804.pdf; ComponentLink3Description: Package Specification; ComponentLink3URL: http://www.analog.com/static/imported-files/packages/PKG_PDF/MSOP%28RM%29/RM_10.pdf
footprint ADI-RM-10_N (SOP, 10-Leads, Body 3x3mm, Pitch 0.5mm, IPC Medium Density)
footprint ADI-RM-10_L (SOP, 10-Leads, Body 3x3mm, Pitch 0.5mm, IPC High Density)
footprint ADI-RM-10_M (SOP, 10-Leads, Body 3x3mm, Pitch 0.5mm, IPC Low Density)
pins: 1 A0 (in) "Logic control inputs. Used to select which source terminal, S1 to S4, is connected to the drain, D.", 2 S1 "Source terminal. May be an input or an output.", 3 GND (power) "Ground (0 V) reference.", 4 S3 "Source terminal. May be an input or an output.", 5 EN (in) "Active high logic control input.", 6 VDD (power) "Most positive power supply potential.", 7 S4 "Source terminal. May be an input or an output.", 8 D "Drain terminal. May be an input or an output.", 9 S2 "Source terminal. May be an input or an output.", 10 A1 (in) "Logic control inputs. Used to select which source terminal, S1 to S4, is connected to the drain, D."

## ADG804YRMZ-REEL
designator U?
1.65 to 3.6 V, CMOS, 0.5 Ohm, 4-Channel Multiplexer, -40 to 125 degC, 10-pin SOP (RM-10), Reel; Manufacturer: Analog Devices; PartNumber: ADG804YRMZ-REEL; Bandwidth (Hz): 33M; Max Analog Signal Range: 0 to Vdd; Ron (ohms): 0.5; Supply V Guar Performance: Single_(+2.5V), Single_(+3.3V), Single_(+3V); t transition (s): 24n; DatasheetVersion: Rev. A; PackageVersion: Aug-05; PackageReference: RM-10; PackageDescription: 10-Pin Mini Small Outline Package, Body 3 x 3 mm, Pitch 0.5 mm; Supplier 1: Digi-Key; Supplier Part Number 1: ADG804YRMZ-REEL-ND; Supplier 2: Newark; Supplier Part Number 2: 59K1639; Supplier 3: Mouser; Supplier Part Number 3: 584-ADG804YRMZ-R; Packing: Reel; Mounting Technology: Surface Mount; Code_JEDEC: MO-187-BA; ComponentLink1Description: Manufacturer URL; ComponentLink1URL: http://www.analog.com/en/index.html; ComponentLink2Description: Datasheet; ComponentLink2URL: http://www.analog.com/static/imported-files/data_sheets/ADG804.pdf; ComponentLink3Description: Package Specification; ComponentLink3URL: http://www.analog.com/static/imported-files/packages/PKG_PDF/MSOP%28RM%29/RM_10.pdf
footprint ADI-RM-10_N (SOP, 10-Leads, Body 3x3mm, Pitch 0.5mm, IPC Medium Density)
footprint ADI-RM-10_L (SOP, 10-Leads, Body 3x3mm, Pitch 0.5mm, IPC High Density)
footprint ADI-RM-10_M (SOP, 10-Leads, Body 3x3mm, Pitch 0.5mm, IPC Low Density)
pins: 1 A0 (in) "Logic control inputs. Used to select which source terminal, S1 to S4, is connected to the drain, D.", 2 S1 "Source terminal. May be an input or an output.", 3 GND (power) "Ground (0 V) reference.", 4 S3 "Source terminal. May be an input or an output.", 5 EN (in) "Active high logic control input.", 6 VDD (power) "Most positive power supply potential.", 7 S4 "Source terminal. May be an input or an output.", 8 D "Drain terminal. May be an input or an output.", 9 S2 "Source terminal. May be an input or an output.", 10 A1 (in) "Logic control inputs. Used to select which source terminal, S1 to S4, is connected to the drain, D."

## ADG804YRMZ-REEL7
designator U?
1.65 to 3.6 V, CMOS, 0.5 Ohm, 4-Channel Multiplexer, -40 to 125 degC, 10-pin SOP (RM-10), Reel; Manufacturer: Analog Devices; PartNumber: ADG804YRMZ-REEL7; Bandwidth (Hz): 33M; Max Analog Signal Range: 0 to Vdd; Ron (ohms): 500; Supply V Guar Performance: Single_(+2.5V), Single_(+3.3V), Single_(+3V); t transition (s): 24n; DatasheetVersion: Rev. A; PackageVersion: Aug-05; PackageReference: RM-10; PackageDescription: 10-Pin Mini Small Outline Package, Body 3 x 3 mm, Pitch 0.5 mm; Supplier 1: Digi-Key; Supplier Part Number 1: ADG804YRMZ-REEL7TR-ND; Supplier 2: Digi-Key; Supplier Part Number 2: ADG804YRMZ-REEL7CT-ND; Supplier 3: Digi-Key; Supplier Part Number 3: ADG804YRMZ-REEL7DKR-ND; Supplier 4: Newark; Supplier Part Number 4: 59K1640; Supplier 5: Mouser; Supplier Part Number 5: 584-ADG804YRMZ-R7; Packing: Reel; Mounting Technology: Surface Mount; Code_JEDEC: MO-187-BA; ComponentLink1Description: Manufacturer URL; ComponentLink1URL: http://www.analog.com/en/index.html; ComponentLink2Description: Datasheet; ComponentLink2URL: http://www.analog.com/static/imported-files/data_sheets/ADG804.pdf; ComponentLink3Description: Package Specification; ComponentLink3URL: http://www.analog.com/static/imported-files/packages/PKG_PDF/MSOP%28RM%29/RM_10.pdf
footprint ADI-RM-10_N (SOP, 10-Leads, Body 3x3mm, Pitch 0.5mm, IPC Medium Density)
footprint ADI-RM-10_L (SOP, 10-Leads, Body 3x3mm, Pitch 0.5mm, IPC High Density)
footprint ADI-RM-10_M (SOP, 10-Leads, Body 3x3mm, Pitch 0.5mm, IPC Low Density)
pins: 1 A0 (in) "Logic control inputs. Used to select which source terminal, S1 to S4, is connected to the drain, D.", 2 S1 "Source terminal. May be an input or an output.", 3 GND (power) "Ground (0 V) reference.", 4 S3 "Source terminal. May be an input or an output.", 5 EN (in) "Active high logic control input.", 6 VDD (power) "Most positive power supply potential.", 7 S4 "Source terminal. May be an input or an output.", 8 D "Drain terminal. May be an input or an output.", 9 S2 "Source terminal. May be an input or an output.", 10 A1 (in) "Logic control inputs. Used to select which source terminal, S1 to S4, is connected to the drain, D."

## ADG904BCPZ
designator U?
Wideband 2.5 GHz, 37 dB Isolation at 1 GHz, CMOS 1.65 to 2.75 V, 4:1 Mux / SP4T, -40 to 85 degC, 20-pin QFN (CP-20-1), Tray; Manufacturer: Analog Devices; PartNumber: ADG904BCPZ; Bandwidth (Hz): 2.5G; Supply V Guar Performance: Single_(+2.5V); t transition (s): 12n; DatasheetVersion: Rev. B; PackageVersion: 061708-A, 07/2011; PackageReference: CP-20-6; PackageDescription: 20-Pin Lead Frame Chip Scale Package, Body 4 x 4 mm, Pitch 0.5 mm; Supplier 1: Digi-Key; Supplier Part Number 1: ADG904BCPZ-ND; Supplier 2: Mouser; Supplier Part Number 2: 584-ADG904BCPZ; Packing: Tray; Mounting Technology: Surface Mount; Code_JEDEC: MO-220; ComponentLink1Description: Manufacturer URL; ComponentLink1URL: http://www.analog.com/en/index.html; ComponentLink2Description: Datasheet; ComponentLink2URL: http://www.analog.com/static/imported-files/data_sheets/ADG904_904R.pdf; ComponentLink3Description: Package Specification; ComponentLink3URL: http://www.analog.com/static/imported-files/packages/PKG_PDF/LFCSP(CP)/CP_20_6.pdf
footprint ADI-CP-20-6_N (QFN, 20-Leads, Body 4x4mm, Pitch 0.5mm, Thermal Pad 2.15x2.15mm, IPC Medium Density)
footprint ADI-CP-20-6_L (QFN, 20-Leads, Body 4x4mm, Pitch 0.5mm, Thermal Pad 2.15x2.15mm, IPC High Density)
footprint ADI-CP-20-6_M (QFN, 20-Leads, Body 4x4mm, Pitch 0.5mm, Thermal Pad 2.15x2.15mm, IPC Low Density)
part A pins: 2 RF1 "RF1 Port.", 5 RF3 "RF3 Port.", 8 RFC "Common RF Port for Switch.", 11 RF4 "RF4 Port.", 14 RF2 "RF2 Port.", 16 A1 (in) "Logic Control Input.", 17 A0 (in) "Logic Control Input.", 18 ~{EN} (in) "Active Low Digital Input. When high, the device is disabled and all switches are off. When low, Ax logic inputs determine On switches."
part B pins: 1 GND (power) "Ground Reference Point for All Circuitry on the Part.", 3 GND (power) "Ground Reference Point for All Circuitry on the Part.", 4 GND (power) "Ground Reference Point for All Circuitry on the Part.", 6 GND (power) "Ground Reference Point for All Circuitry on the Part.", 7 GND (power) "Ground Reference Point for All Circuitry on the Part.", 9 GND (power) "Ground Reference Point for All Circuitry on the Part.", 10 GND (power) "Ground Reference Point for All Circuitry on the Part.", 12 GND (power) "Ground Reference Point for All Circuitry on the Part.", 13 GND (power) "Ground Reference Point for All Circuitry on the Part.", 15 GND (power) "Ground Reference Point for All Circuitry on the Part.", 19 VDD (power) "Power Supply Input. These parts can be operated from 1.65 V to 2.75 V. VDD should be decoupled to GND.", 20 GND (power) "Ground Reference Point for All Circuitry on the Part.", 21 EP (power) "Exposed Pad."